# EAGLE library part IRF7314 (library led-stuff)
Dual P-Channel HEXFET® Power MOSFET Generation V Technology Ultra Low On-Resistance Dual P-Channel MOSFET Surface Mount Fully Avalanche Rated RDS(ON) 12.5mΩ @VGS = 10V 18.6mΩ @VGS = 4.5V Maximum Ratings VGS = 12V VDS = -20V IDS = -5.3A
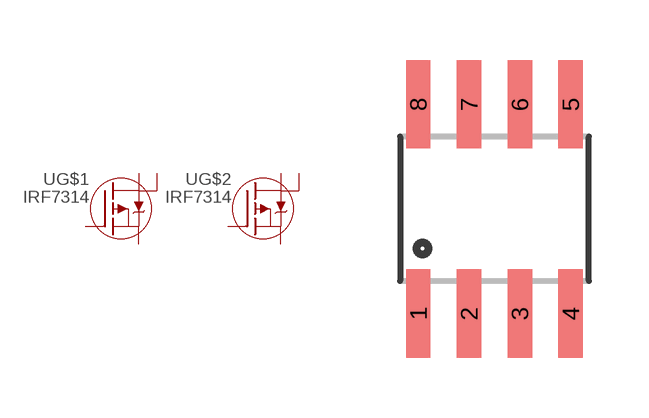
[diagram p9: symbol with the pads of SO08; footprint SO08]

Designator prefix -; gates G$1=P-MOSFET-SO8-DUAL G$2=P-MOSFET-SO8-DUAL

## IRF7314  [SO08]
1  G$1:S
2  G$1:G
3  G$2:S
4  G$2:G
5  G$2:D
6  G$2:D
7  G$1:D
8  G$1:D

## Footprint SO08 (pad centres in mm)
Small Outline Package Fits JEDEC packages (narrow SOIC-8)
smd 0.61 x 2.21: 1 -1.905,-2.616; 2 -0.635,-2.616; 3 0.635,-2.616; 4 1.905,-2.616; 5 1.905,2.616; 6 0.635,2.616; 7 -0.635,2.616; 8 -1.905,2.616